# Altium schematic symbol library UC384x.SchLib: 1 symbol
Pins are listed as number, name and electrical type; pins without a type are passive.

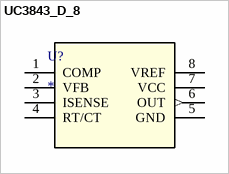
[diagram p0: symbol UC3843_D_8]

## UC3843_D_8
designator U?
UCx84x Current-Mode PWM Controllers; Manufacturer: Texas Instruments; GENERIC_PART_NUMBER: UC3843; Manufacturer_Part_Number: uc3843_d_8; INDUSTRY_STD_PKG_TYPE: SOIC; PIN_COUNT: 8; PACKAGE_DESIGNATOR: D; Datasheet_URL: http://www.ti.com/lit/gpn/UC3843; FAMILY_NAME: PWM CONTROLLER; Vendor: Texas Instruments; Value: Value; Type: Type; RefDes: RefDes
footprint D8
pins: 1 COMP, 2 VFB, 3 ISENSE, 4 RT/CT, 5 GND (power), 6 OUT (out), 7 VCC (power), 8 VREF